# Altium footprint library special.PCBLIB: 77 footprints (part 1 of 5)
Each footprint in its own frame and in the unit in brackets; x right, y up, seen from the top. Pads: shape width x height; smd on the part's side, far side on the other; paste and mask are expansions set on the pad; w line width, h text height; cw(c..) or ccw(c..) is an arc to the next point about the centre after c.
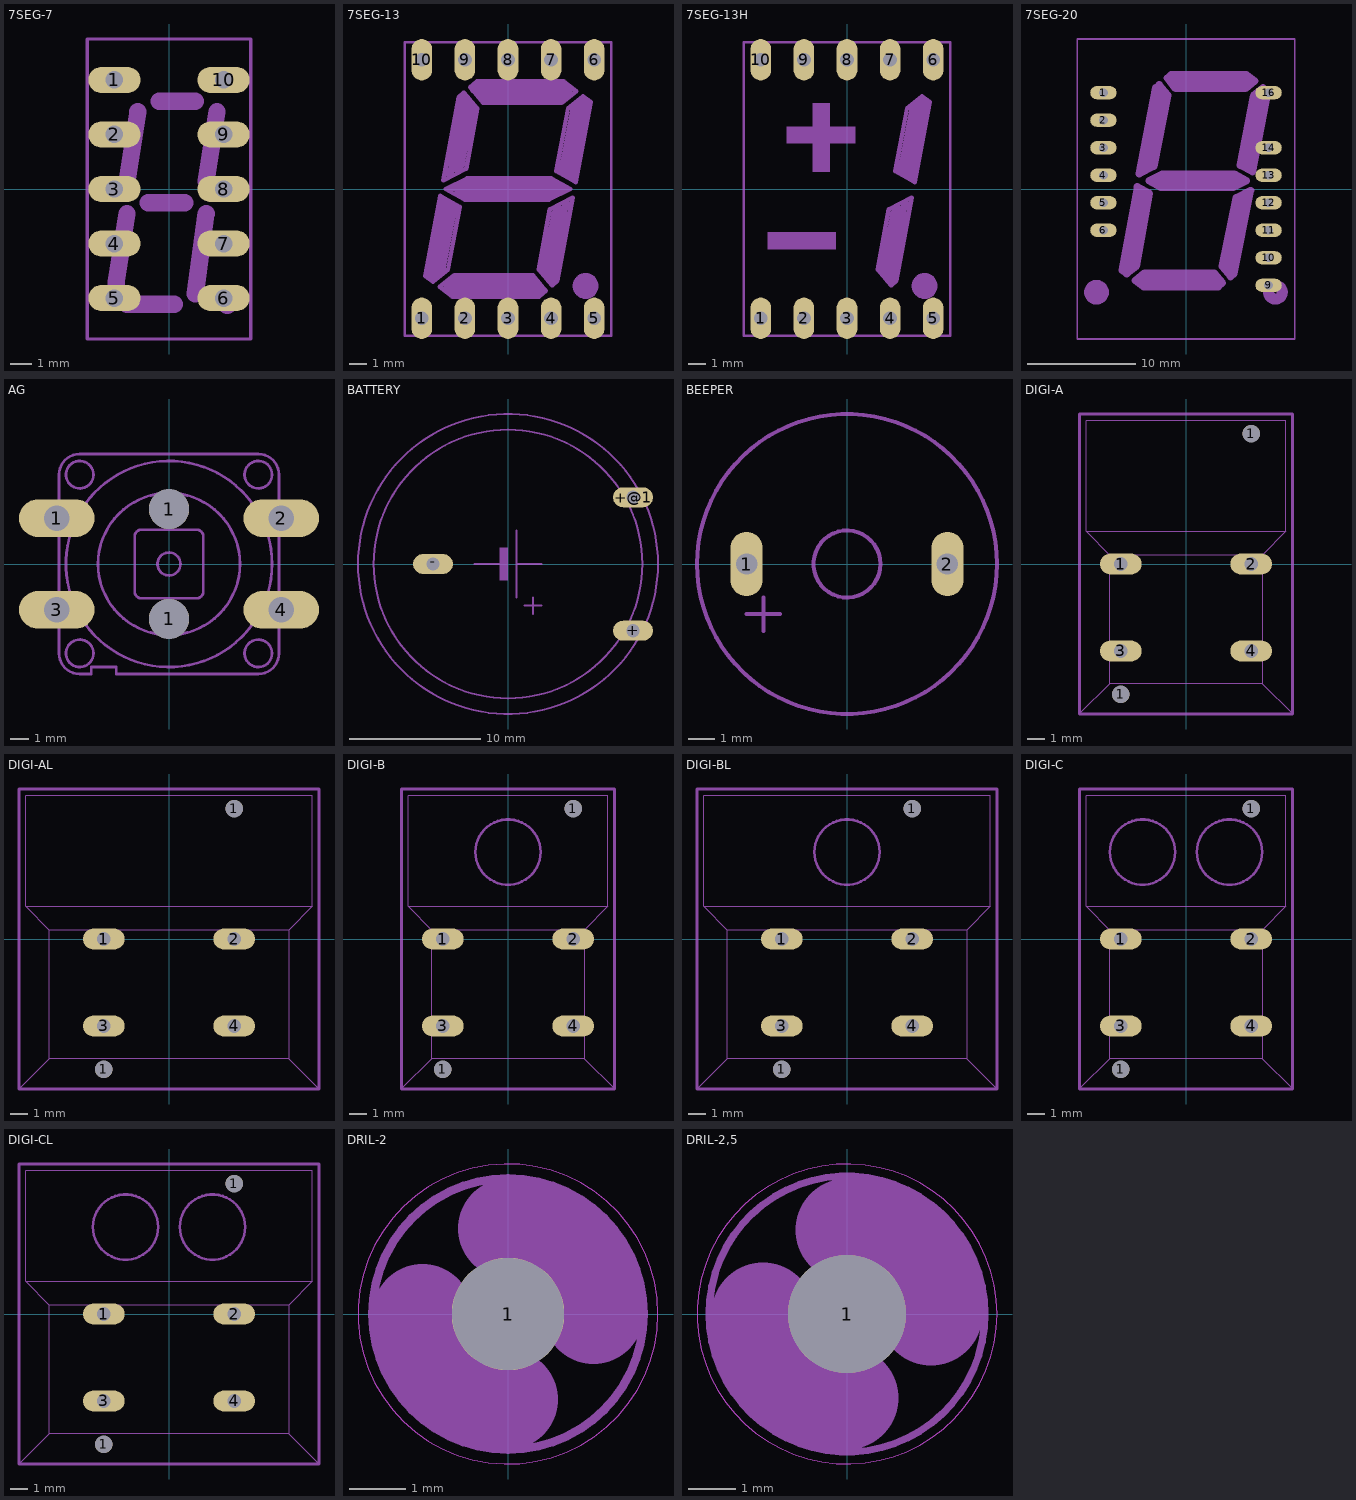
[diagram p0: the footprints below, top view; thin cyan lines are the x and y axes]

## 7SEG-7 [mil]
pads (10):
  oval 96x48 hole 32: 1(-100,200) 2(-100,100) 3(-100,0) 4(-100,-100) 5(-100,-200) 6(100,-200) 7(100,-100) 8(100,0) 9(100,100) 10(100,200)
Mechanical 2:
  circle w24: c107,-211 r6
  lines w6: -150,-275 150,-275 150,275 -150,275 -150,-275
  lines w32: -38,-25 29,-25 ; -18,161 48,161
Mechanical 18:
  lines w32: -97,-172 -77,-45 ; -77,-211 10,-211 ; -77,14 -57,142 ; 48,-192 68,-45 ; 68,14 88,142

## 7SEG-13 [mil]
pads (10):
  oval 48x96 hole 32: 1(-200,-300) 2(-100,-300) 3(0,-300) 4(100,-300) 5(200,-300) 6(200,300) 7(100,300) 8(0,300) 9(-100,300) 10(-200,300)
Mechanical 2:
  circle w30: c180,-225 r15
  rectangle: 60,-245 85,-225
  rectangle: 125,-50 145,-30
  rectangle: 120,-10 135,10
  rectangle: -135,-5 -120,5
  rectangle: -145,30 -125,50
  rectangle: 170,-230 190,-220
  lines w6: -240,-340 -240,340 240,340 240,-340 -240,-340
  lines w10: -192,-202 -174,-215 -139,-187 -112,-41 -157,-16 -192,-202 ; -159,-227 -125,-200 58,-200 88,-236 72,-250 -129,-250 -159,-227 ; -150,20 -97,47 -71,187 -102,224 -115,213 -150,20 ; -145,0 -100,-25 95,-25 145,0 100,25 -95,25 -145,0 ; -88,236 -58,200 125,200 159,227 129,250 -72,250 -88,236 ; 71,-187 97,-47 150,-20 115,-213 102,-224 71,-187 ; 112,41 157,16 192,202 174,215 139,187 112,41
  lines w16: -80,230 -65,245
  lines w20: -180,-195 -175,-200 ; 175,200 180,195
  lines w26: -150,-35 -125,-50 ; 125,50 150,35
  lines w30: -105,200 -100,205 ; 100,-205 105,-200
  lines w40: -165,-185 -140,-55 ; -130,-225 55,-225 ; -120,60 -95,185 ; -105,0 105,0 ; -55,225 130,225 ; 95,-185 120,-60 ; 140,55 165,185

## 7SEG-13H [mil]
pads (10):
  oval 48x96 hole 32: 1(-200,-300) 2(-100,-300) 3(0,-300) 4(100,-300) 5(200,-300) 6(200,300) 7(100,300) 8(0,300) 9(-100,300) 10(-200,300)
Mechanical 2:
  circle w30: c180,-225 r15
  rectangle: 125,-50 145,-30
  rectangle: 170,-230 190,-220
  rectangle: -140,105 20,145
  rectangle: -80,40 -40,200
  rectangle: -185,-140 -25,-100
  lines w6: -240,-340 -240,340 240,340 240,-340 -240,-340
  lines w10: 71,-187 97,-47 150,-20 115,-213 102,-224 71,-187 ; 112,41 157,16 192,202 174,215 139,187 112,41
  lines w20: 175,200 180,195
  lines w26: 125,50 150,35
  lines w30: 100,-205 105,-200
  lines w40: 95,-185 120,-60 ; 140,55 165,185

## 7SEG-20 [mil]
pads (13):
  oval 96x48 hole 32: 1(-300,350) 2(-300,250) 3(-300,150) 4(-300,50) 5(-300,-50) 6(-300,-150) 9(300,-350) 10(300,-250) 11(300,-150) 12(300,-50) 13(300,50) 14(300,150) 16(300,350)
Mechanical 2:
  circle w40: c-325,-375 r25
  rectangle: 195,20 210,40
  rectangle: -125,25 -110,35
  rectangle: -165,65 -145,85
  rectangle: 210,-35 230,-15
  rectangle: -350,-400 -300,-350
  lines w6: -395,-545 -395,545 395,545 395,-545 -395,-545
  lines w16: -60,395 -45,410 ; 110,-350 125,-335
  lines w20: -221,-288 -216,-293
  lines w26: -170,-10 -145,-25 ; 210,95 235,80 ; 242,62 197,86 245,340 ; -233,-295 -215,-308 -180,-280 -132,-16 -177,8 -233,-295 ; -185,-332 -151,-305 103,-305 133,-341 117,-355 -155,-355 -185,-332 ; -170,55 -117,82 -66,342 -97,379 -110,368 -170,55 ; -135,30 -90,5 170,5 220,30 175,55 -85,55 -135,30 ; -68,403 -38,365 216,365 250,392 220,415 -55,415 -68,403 ; 131,-282 182,-32 235,-5 175,-308 162,-319 131,-282
  lines w30: -100,355 -95,360 ; 160,-300 165,-295
  lines w40: -206,-278 -160,-30 ; -156,-330 100,-330 ; -140,95 -90,340 ; -95,30 180,30 ; -35,390 221,390 ; 155,-280 205,-45
Mechanical 18:
  circle w40: c325,-375 r25
  lines w20: 281,353 286,348
  lines w26: 242,62 298,355 280,368 245,340
  lines w40: 225,100 271,338

## AG [mil]
pads (6):
  oval 165x82.5 hole 55: 1(-245,100) 2(245,100) 3(-245,-100) 4(245,-100)
  round 87 hole 87: 1(0,-120) 1(0,120)
Mechanical 2:
  circle w6: c0,0 r225
  circle w6: c0,0 r155
  circle w6: c195,195 r30
  circle w6: c-195,195 r30
  circle w6: c-195,-195 r30
  circle w6: c195,-195 r30
  circle w6: c0,0 r25
  lines w6: -240,-155 -240,-195 ccw(c-195,-195) -195,-240 -170,-240 -170,-225 -115,-225 -115,-240 195,-240 ccw(c195,-195) 240,-195 240,-155 ; -240,-45 -240,45 ; -240,155 -240,195 cw(c-195,195) -195,240 195,240 cw(c195,195) 240,195 240,155 ; 240,-45 240,45 ; -75,-60 -75,60 cw(c-60,60) -60,75 60,75 cw(c60,60) 75,60 75,-60 cw(c60,-60) 60,-75 -60,-75 cw(c-60,-60) -75,-60
Mechanical 18:
  lines w6: -240,-155 -240,-45 ; -240,45 -240,155 ; 240,-155 240,-45 ; 240,45 240,155

## BATTERY [mil]
pads (3):
  oval 120x60 hole 40: +(375,-200) +@1(375,200) -(-225,0)
Mechanical 2:
  circle w6: c0,0 r450
  circle w6: c0,0 r403
  rectangle: -25,-50 0,50
  lines w6: -100,0 -25,0 ; 25,-100 25,0 ; 25,100 25,0 ; 50,-125 100,-125 ; 75,-150 75,-100 ; 100,0 25,0

## BEEPER [mil]
pads (2):
  oval 48x96 hole 32: 1(-150,0) 2(150,0)
Mechanical 2:
  circle w6: c0,0 r224
  circle w6: c0,0 r50
  lines w6: -150,-75 -100,-75 ; -125,-100 -125,-50

## DIGI-A [mil]
pads (6):
  round 40 hole 40: 1(-150,-300) 1(150,300)
  oval 96x48 hole 32: 1(-150,0) 2(150,0) 3(-150,-200) 4(150,-200)
Mechanical 2:
  lines w2: -245,-345 -175,-275 175,-275 245,-345 ; -175,20 -230,75 ; 175,20 230,75 ; -230,75 -230,330 230,330 230,75 ; -230,75 230,75
  lines w6: -245,-345 -245,345 245,345 245,-345 -245,-345
Mechanical 18:
  lines w2: -175,-275 -175,20 175,20 175,-275

## DIGI-AL [mil]
pads (6):
  round 40 hole 40: 1(-150,-300) 1(150,300)
  oval 96x48 hole 32: 1(-150,0) 2(150,0) 3(-150,-200) 4(150,-200)
Mechanical 2:
  lines w2: -345,-345 -275,-275 ; 345,-345 275,-275 ; -330,75 -330,330 330,330 330,75 ; -330,75 330,75 ; -330,75 -275,20 -275,-275 ; -275,-275 275,-275 ; 275,-275 275,20 330,75
  lines w6: -345,-345 -345,345 345,345 345,-345 -345,-345
Mechanical 18:
  lines w2: -275,20 275,20

## DIGI-B [mil]
pads (6):
  round 40 hole 40: 1(-150,-300) 1(150,300)
  oval 96x48 hole 32: 1(-150,0) 2(150,0) 3(-150,-200) 4(150,-200)
Mechanical 2:
  circle w6: c0,200 r75
  lines w2: -245,-345 -175,-275 175,-275 245,-345 ; -175,20 -230,75 ; 175,20 230,75 ; -230,75 -230,330 230,330 230,75 ; -230,75 230,75
  lines w6: -245,-345 -245,345 245,345 245,-345 -245,-345
Mechanical 18:
  lines w2: -175,-275 -175,20 175,20 175,-275

## DIGI-BL [mil]
pads (6):
  round 40 hole 40: 1(-150,-300) 1(150,300)
  oval 96x48 hole 32: 1(-150,0) 2(150,0) 3(-150,-200) 4(150,-200)
Mechanical 2:
  circle w6: c0,200 r75
  lines w2: -345,-345 -275,-275 ; 345,-345 275,-275 ; -330,75 -330,330 330,330 330,75 ; -330,75 330,75 ; -330,75 -275,20 -275,-275 ; -275,-275 275,-275 ; 275,-275 275,20 330,75
  lines w6: -345,-345 -345,345 345,345 345,-345 -345,-345
Mechanical 18:
  lines w2: -275,20 275,20

## DIGI-C [mil]
pads (6):
  round 40 hole 40: 1(-150,-300) 1(150,300)
  oval 96x48 hole 32: 1(-150,0) 2(150,0) 3(-150,-200) 4(150,-200)
Mechanical 2:
  circle w6: c-100,200 r75
  circle w6: c100,200 r75
  lines w2: -245,-345 -175,-275 175,-275 245,-345 ; -175,20 -230,75 ; 175,20 230,75 ; -230,75 -230,330 230,330 230,75 ; -230,75 230,75
  lines w6: -245,-345 -245,345 245,345 245,-345 -245,-345
Mechanical 18:
  lines w2: -175,-275 -175,20 175,20 175,-275

## DIGI-CL [mil]
pads (6):
  round 40 hole 40: 1(-150,-300) 1(150,300)
  oval 96x48 hole 32: 1(-150,0) 2(150,0) 3(-150,-200) 4(150,-200)
Mechanical 2:
  circle w6: c-100,200 r75
  circle w6: c100,200 r75
  lines w2: -345,-345 -275,-275 ; 345,-345 275,-275 ; -330,75 -330,330 330,330 330,75 ; -330,75 330,75 ; -330,75 -275,20 -275,-275 ; -275,-275 275,-275 ; 275,-275 275,20 330,75
  lines w6: -345,-345 -345,345 345,345 345,-345 -345,-345
Mechanical 18:
  lines w2: -275,20 275,20

## DRAWING [mil]

## DRIL-2 [mm]
pads (1):
  round 2 hole 2: 1(0,0)
Mechanical 2:
  circle w0.152: c0,0 r2.413
Mechanical 6:
  lines w1.778: -1.524,0 ccw(c0,0) 0,-1.524 ; 0,1.524 cw(c0,0) 1.524,0
Mechanical 10 keep-out:
  circle w0: c0,0 r2.667
Mechanical 11 keep-out:
  circle w0: c0,0 r2.667
Mechanical 12:
  circle w0: c0,0 r2.667
Mechanical 18:
  circle w0.457: c0,0 r0.508

## DRIL-2,5 [mil]
pads (1):
  round 98.43 hole 98.43: 1(0,0)
Mechanical 2:
  circle w6: c0,0 r115
Mechanical 6:
  lines w86: -70,0 ccw(c0,0) 0,-70 ; 0,70 cw(c0,0) 70,0
Mechanical 10 keep-out:
  circle w0: c0,0 r125
Mechanical 11 keep-out:
  circle w0: c0,0 r125
Mechanical 12:
  circle w0: c0,0 r125
Mechanical 18:
  circle w18: c0,0 r25